# Altium footprint library PCB - LEADLESS - QFN - TI VQFN-24 RGY0024F.PcbLib: 1 footprints
Each footprint in its own frame and in the unit in brackets; x right, y up, seen from the top. Pads: shape width x height; smd on the part's side, far side on the other; paste and mask are expansions set on the pad; w line width, h text height; cw(c..) or ccw(c..) is an arc to the next point about the centre after c.
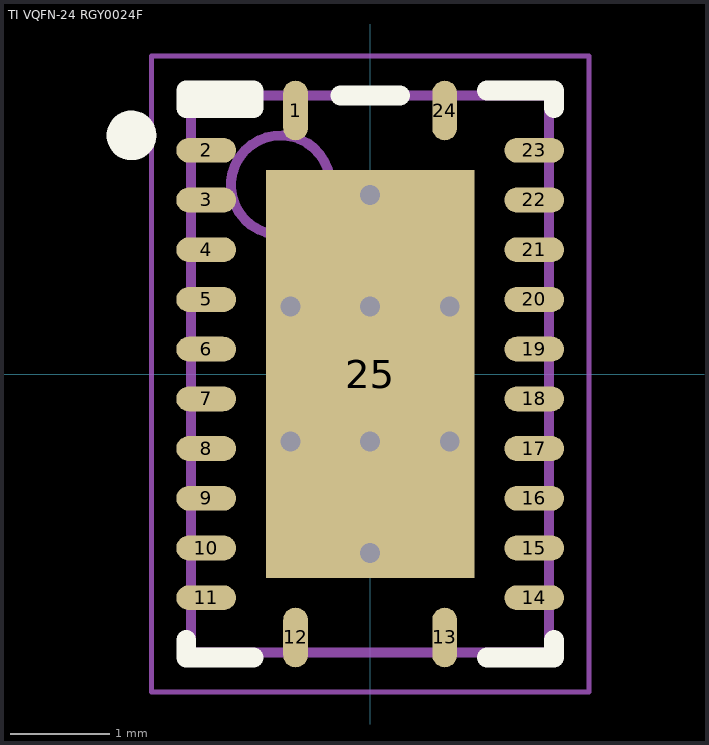
[diagram p0: the footprint, top view; thin cyan lines are the x and y axes]

## TI VQFN-24 RGY0024F [mm] "VQFN, 24-Leads, Body 3.50x5.50mm, Pitch 1.50mm/0.50mm, Thermal Pad 2.10x4.10mm"
height 1
pads (25):
  oval 0.25x0.6 smd: 1(-0.75,2.65) 12(-0.75,-2.65) 13(0.75,-2.65) 24(0.75,2.65)
  oval 0.6x0.25 smd: 2(-1.65,2.25) 3(-1.65,1.75) 4(-1.65,1.25) 5(-1.65,0.75) 6(-1.65,0.25) 7(-1.65,-0.25) 8(-1.65,-0.75) 9(-1.65,-1.25) 10(-1.65,-1.75) 11(-1.65,-2.25) 14(1.65,-2.25) 15(1.65,-1.75) 16(1.65,-1.25) 17(1.65,-0.75) 18(1.65,-0.25) 19(1.65,0.25) 20(1.65,0.75) 21(1.65,1.25) 22(1.65,1.75) 23(1.65,2.25)
  rect 2.1x4.1 smd: 25(0,0)
via 0,-1.8 diameter 0.5 hole 0.2
via 0,-0.68 diameter 0.5 hole 0.2
via 0,0.68 diameter 0.5 hole 0.2
via 0,1.8 diameter 0.5 hole 0.2
via -0.8,0.68 diameter 0.5 hole 0.2
via 0.8,0.68 diameter 0.5 hole 0.2
via -0.8,-0.68 diameter 0.5 hole 0.2
via 0.8,-0.68 diameter 0.5 hole 0.2
Top Overlay:
  circle w0.25: c-2.4,2.4 r0.125
  lines w0.2: -1.85,-2.675 -1.85,-2.85 -1.175,-2.85 ; -0.3,2.8 0.3,2.8 ; 1.175,-2.85 1.85,-2.85 1.85,-2.675 ; 1.175,2.85 1.85,2.85 1.85,2.675 ; -1.85,2.675 -1.85,2.85 -1.175,2.85 -1.175,2.675 -1.85,2.675
Mechanical 13:
  circle w0.1: c-0.9,1.9 r0.5
  lines w0.1: -1.8,-2.8 -1.8,2.8 1.8,2.8 1.8,-2.8 -1.8,-2.8
Mechanical 15:
  lines w0.05: -2.2,-3.2 -2.2,3.2 2.2,3.2 2.2,-3.2 -2.2,-3.2
  lines w0.1: -0.5,0 0.5,0 ; 0,-0.5 0,0.5
3D body "TI VQFN-24 RGY0024F.step": height 1, standoff 0, extent -1.81,-2.81 1.81,2.81